# Altium schematic symbol library Shield 13.75x16.75mm.Schlib: 1 symbol
Pins are listed as number, name and electrical type; pins without a type are passive.

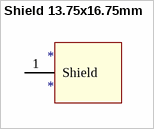
[diagram p0: symbol Shield 13.75x16.75mm]

## Shield 13.75x16.75mm
designator *
pins: 1 Shield